# Altium footprint library tdk_choke_act45b-101-2p-tl003.PcbLib: 1 footprints
Each footprint in its own frame and in the unit in brackets; x right, y up, seen from the top. Pads: shape width x height; smd on the part's side, far side on the other; paste and mask are expansions set on the pad; w line width, h text height; cw(c..) or ccw(c..) is an arc to the next point about the centre after c.
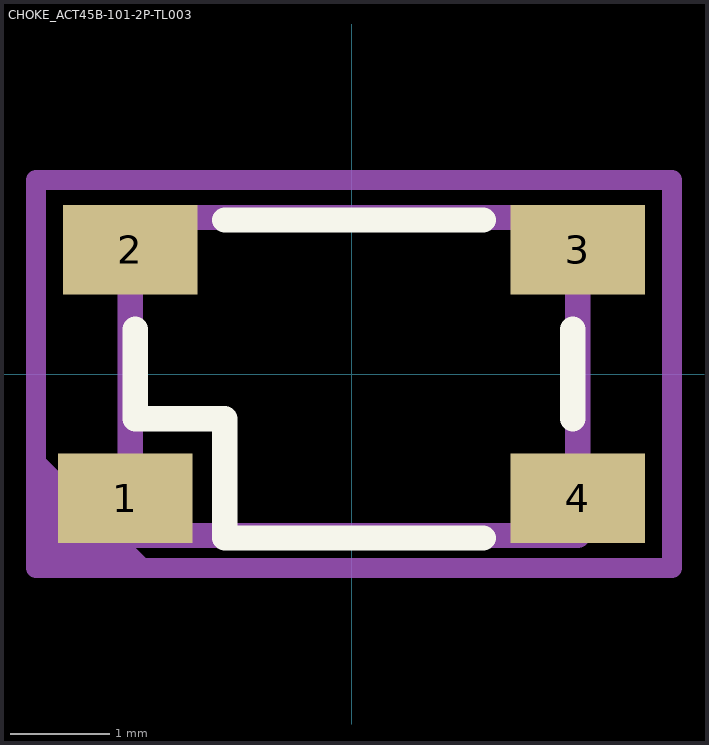
[diagram p0: the footprint, top view; thin cyan lines are the x and y axes]

## CHOKE_ACT45B-101-2P-TL003 [mm]
height 2.8
pads (4):
  rect 1.35x0.9 smd: 1(-2.275,-1.25) 2(-2.225,1.25) 3(2.275,1.25) 4(2.275,-1.25)
Top Overlay:
  lines w0.254: -2.175,0.45 -2.175,-0.45 -1.275,-0.45 -1.275,-1.65 1.325,-1.65 ; -1.275,1.55 1.325,1.55 ; 2.225,-0.45 2.225,0.45
Top 3D Body:
  lines w0.254: -2.225,-1.625 -2.225,1.575 2.275,1.575 2.275,-1.625 -2.225,-1.625
Top Courtyard:
  region: -3.175,-1.95 -3.175,-0.75 -1.975,-1.95
  lines w0.2: -3.175,-1.95 -3.175,1.95 3.225,1.95 3.225,-1.95 -3.175,-1.95
Top Designator:
  text ".Designator" at -1.25,-0.15 h0.6
3D body "act45b-colorized.step": height 2.81, standoff 0.01, extent -2.225,-1.625 2.275,1.575